# Altium schematic symbol library Passive.SchLib: 24 symbols
Pins are listed as number, name and electrical type; pins without a type are passive.

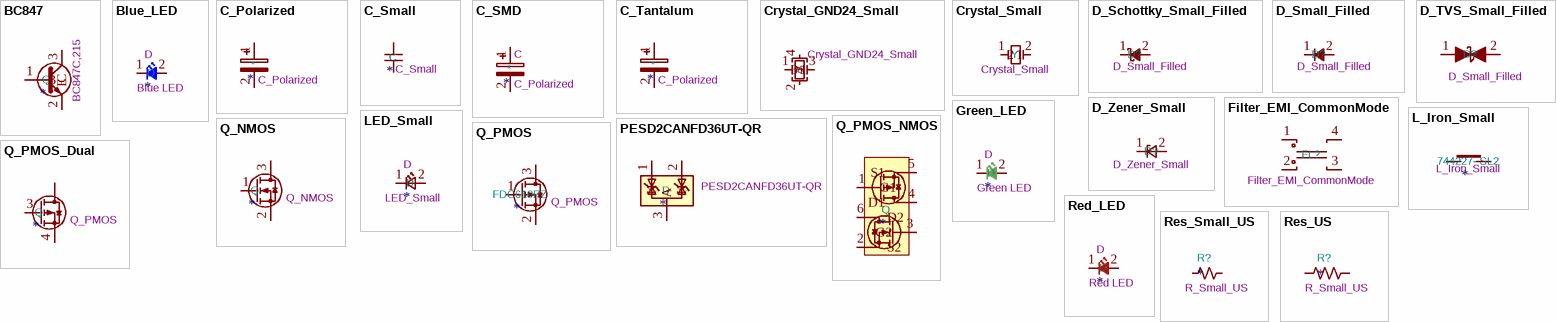
[diagram p0: symbols BC847 to Res_US]

## BC847
designator Q  value BC847C,215
NPN bipolar junction transistor; Manufacturer: Nexperia; Manufacturer Lifecycle Status: RELEASED FOR SUPPLY; ki_keywords: BJT; Reference: Q; Collector Emitter Saturation Voltage: 400mV; Collector Emitter Voltage (VCEO): 45V; hFE Min: 420; Max Collector Current: 100mA; Max Power Dissipation: 250mW; Number of Elements: 1; Transition Frequency: 100MHz; Datasheet: ~; Description_: NPN bipolar junction transistor; Category: BJTs; China RoHS: Compliant; Contact Plating: Tin; Lifecycle Status: Production; Manufacturer Part Number: BC847C,215; Max Operating Temperature: 150°C; Min Operating Temperature: -65°C; Pins: 3; Number of Terminals: 3; Packaging: Cut Tape; Polarity: NPN; Power Dissipation: 250mW; REACH SVHC: Yes; RoHS: Compliant; Schedule B: 8541210080, 8541210080|8541210080, 8541210080|8541210080|8541210080, 8541210080|8541210080|8541210080|8541210080; Supplier 1: Mouser; Supplier Part Number 1: 771-BC847C-T/R; Supplier Packaging 1: Tape & Reel; Supplier Unit Price 1: $0.13; Supplier Location 1: US
footprint SOT-23-3
pins: 1 B, 2 E, 3 C

## Blue_LED
designator D  value Blue LED  Reference: D
Light emitting diode, small symbol, filled shape; Sim.Pins: 1=K 2=A; ki_keywords: LED diode light-emitting-diode; ki_fp_filters: LED* LED_SMD:* LED_THT:*; Datasheet: ~; Description_: Light emitting diode, small symbol, filled shape
footprint LED_0201_0603Metric
footprint LED_0402_1005Metric
footprint LED_0603_1608Metric
footprint LED_0805_2012Metric
footprint LED_01005_0402Metric
footprint LED_1206_3216Metric
footprint LED_1206_3216Metric_ReverseMount_Hole1.8x2.4mm
footprint LED_1210_3225Metric
footprint LED_1812_4532Metric
footprint LED_2010_5025Metric
footprint LED_2512_6332Metric
pins: 1 K, 2 A

## C_Polarized
designator *  value C_Polarized
Polarized capacitor; Datasheet: ~
footprint CP_EIA-1608-08_AVX-J
footprint CP_EIA-1608-10_AVX-L
footprint CP_EIA-1608-08_AVX-J
footprint CP_EIA-2012-12_Kemet-R
footprint CP_Radial_D8.0mm_P2.50mm
footprint CP_Radial_D8.0mm_P3.50mm
footprint CP_Radial_D6.3mm_P2.50mm
footprint CP_Radial_D5.0mm_P2.50mm
footprint CP_Radial_D8.0mm_P5.00mm
footprint CP_Radial_D7.5mm_P2.50mm
footprint CP_Radial_D5.0mm_P2.00mm
footprint CP_Radial_D5.0mm_P2.00mm
footprint CP_Radial_D4.0mm_P2.00mm
footprint CP_Radial_D4.0mm_P1.50mm
footprint CP_Radial_D10.0mm_P2.50mm
footprint CP_Radial_D10.0mm_P2.50mm_P5.00mm
footprint CP_Radial_D10.0mm_P3.50mm
footprint CP_Radial_D10.0mm_P5.00mm
footprint CP_Radial_D10.0mm_P5.00mm_P7.50mm
footprint CP_Radial_D10.0mm_P7.50mm
footprint CP_Radial_D12.5mm_P2.50mm
footprint CP_Radial_D12.5mm_P5.00mm
footprint CP_Radial_D12.5mm_P7.50mm
pins: 1, 2

## C_Small
designator C  value C_Small
Unpolarized capacitor, small symbol; Datasheet: ~; Description_: Unpolarized capacitor, small symbol
footprint C_0201_0603Metric
footprint C_0402_1005Metric
footprint C_0603_1608Metric
footprint C_0805_2012Metric
footprint C_1206_3216Metric
footprint C_0504_1310Metric
footprint C_01005_0402Metric
footprint C_1210_3225Metric
footprint C_1808_4520Metric
footprint C_1812_4532Metric
footprint C_1825_4564Metric
footprint C_2220_5750Metric
footprint C_2225_5664Metric
footprint C_3640_9110Metric
pins: 1, 2

## C_SMD
designator *  value C_Polarized  Reference: C
SMD Capacitor; Datasheet: ~
footprint C_01005_0402Metric
footprint C_0201_0603Metric
footprint C_0402_1005Metric
footprint C_0504_1310Metric
footprint C_0603_1608Metric
footprint C_0805_2012Metric
footprint C_1206_3216Metric
footprint C_1210_3225Metric
footprint C_1808_4520Metric
footprint C_1812_4532Metric
footprint C_1825_4564Metric
footprint C_2220_5750Metric
footprint C_2225_5664Metric
footprint C_3640_9110Metric
footprint C_Elec_10x10.2
footprint C_Elec_3x5.4
footprint C_Elec_4x5.4
footprint C_Elec_4x5.8
footprint C_Elec_5x5.4
footprint C_Elec_5x5.8
footprint C_Elec_6.3x5.4
footprint C_Elec_6.3x5.8
footprint C_Elec_6.3x7.7
footprint C_Elec_8x10.2
footprint C_Elec_8x5.4
footprint C_Elec_8x5.4
footprint C_Elec_8x5.4
footprint C_Elec_8x6.2
footprint C_Trimmer_Murata_TZB4-A
footprint C_Trimmer_Murata_TZB4-B
footprint C_Trimmer_Murata_TZC3
footprint C_Trimmer_Murata_TZR1
footprint C_Trimmer_Murata_TZW4
footprint C_Trimmer_Murata_TZY2
footprint C_Trimmer_Sprague-Goodman_SGC3
footprint C_Trimmer_Voltronics_JN
footprint C_Trimmer_Voltronics_JQ
footprint C_Trimmer_Voltronics_JR
footprint C_Trimmer_Voltronics_JV
footprint C_Trimmer_Voltronics_JZ
footprint CP_Elec_10x10
footprint CP_Elec_10x10.5
footprint CP_Elec_10x12.5
footprint CP_Elec_10x12.6
footprint CP_Elec_10x14.3
footprint CP_Elec_10x7.7
footprint CP_Elec_10x7.9
footprint CP_Elec_16x17.5
footprint CP_Elec_16x22
footprint CP_Elec_18x17.5
footprint CP_Elec_18x22
footprint CP_Elec_3x5.3
footprint CP_Elec_3x5.4
footprint CP_Elec_4x3
footprint CP_Elec_4x3.9
footprint CP_Elec_4x4.5
footprint CP_Elec_4x5.3
footprint CP_Elec_4x5.4
footprint CP_Elec_4x5.7
footprint CP_Elec_4x5.8
footprint CP_Elec_5x3
footprint CP_Elec_5x3.9
footprint CP_Elec_5x4.4
footprint CP_Elec_5x4.5
footprint CP_Elec_5x5.3
footprint CP_Elec_5x5.4
footprint CP_Elec_5x5.7
footprint CP_Elec_5x5.8
footprint CP_Elec_5x5.9
footprint CP_Elec_6.3x3
footprint CP_Elec_6.3x3.9
footprint CP_Elec_6.3x4.5
footprint CP_Elec_6.3x4.9
footprint CP_Elec_6.3x5.2
footprint CP_Elec_6.3x5.3
footprint CP_Elec_6.3x5.4
footprint CP_Elec_6.3x5.4_Nichicon
footprint CP_Elec_6.3x5.7
footprint CP_Elec_6.3x5.8
footprint CP_Elec_6.3x5.9
footprint CP_Elec_6.3x7.7
footprint CP_Elec_6.3x9.9
footprint CP_Elec_8x10
footprint CP_Elec_8x10.5
footprint CP_Elec_8x11.9
footprint CP_Elec_8x5.4
footprint CP_Elec_8x6.2
footprint CP_Elec_8x6.5
footprint CP_Elec_8x6.7
footprint CP_Elec_8x6.9
footprint CP_Elec_CAP-XX_DMF3Zxxxxxxxx3D
footprint C_Elec_12.5x12.5
pins: 1, 2

## C_Tantalum
designator *  value C_Polarized
Tantalum capacitor; Datasheet: ~
footprint CP_EIA-1608-08_AVX-J
footprint CP_EIA-1608-10_AVX-L
footprint CP_EIA-2012-12_Kemet-R
footprint CP_EIA-2012-15_AVX-P
footprint CP_EIA-3216-10_Kemet-I
footprint CP_EIA-3216-12_Kemet-S
footprint CP_EIA-3216-18_Kemet-A
footprint CP_EIA-3528-12_Kemet-T
footprint CP_EIA-3528-15_AVX-H
footprint CP_EIA-3528-21_Kemet-B
footprint CP_EIA-6032-15_Kemet-U
footprint CP_EIA-6032-20_AVX-F
footprint CP_EIA-6032-28_Kemet-C
footprint CP_EIA-7132-20_AVX-U
footprint CP_EIA-7132-28_AVX-C
footprint CP_EIA-7260-15_AVX-R
footprint CP_EIA-7260-20_AVX-M
footprint CP_EIA-7260-28_AVX-M
footprint CP_EIA-7260-38_AVX-R
footprint CP_EIA-7343-15_Kemet-W
footprint CP_EIA-7343-20_Kemet-V
footprint CP_EIA-7343-30_AVX-N
footprint CP_EIA-7343-43_Kemet-X
footprint CP_EIA-7343-31_Kemet-D
footprint CP_EIA-7360-38_Kemet-E
footprint CP_EIA-7343-40_Kemet-Y
footprint CP_EIA-7361-38_AVX-V
footprint CP_EIA-7361-438_AVX-U
pins: 1, 2

## Crystal_GND24_Small
designator Y  value Crystal_GND24_Small  (hidden comment: *)
Four pin crystal, GND on pins 2 and 4, small symbol; ki_keywords: quartz ceramic resonator oscillator; ki_fp_filters: Crystal*; Reference: Y; Datasheet: ~; Description_: Four pin crystal, GND on pins 2 and 4, small symbol
pins: 1, 2, 3, 4

## Crystal_Small
designator Y  value Crystal_Small  (hidden comment: *)
Two pin crystal, small symbol; ki_keywords: quartz ceramic resonator oscillator; ki_fp_filters: Crystal*; Reference: Y; Datasheet: ~; Description_: Two pin crystal, small symbol
footprint Crystal_SMD_G8-2Pin_3.2x1.5mm
pins: 1, 2

## D_Schottky_Small_Filled
designator D?  value D_Small_Filled  (hidden comment: *)
Schottky diode, small symbol; Description_: Schottky diode, small symbol, filled shape; Sim.Device: D; Sim.Pins: 1=K 2=A; ki_fp_filters: TO-???* *_Diode_* *SingleDiode* D_*; Datasheet: ~; ki_keywords: diode; Reference: D
footprint D_SMA
footprint D_MicroMELF
footprint D_MiniMELF
footprint D_SMB
footprint D_SMC
footprint D_SC-80
footprint D_SMF
footprint D_SOD-128
footprint D_SOD-123
pins: 1 K, 2 A

## D_Small_Filled
designator D?  value D_Small_Filled  (hidden comment: *)
Diode, small symbol, filled shape; Sim.Device: D; Sim.Pins: 1=K 2=A; ki_fp_filters: TO-???* *_Diode_* *SingleDiode* D_*; Datasheet: ~; Description_: Diode, small symbol, filled shape; ki_keywords: diode; Reference: D
footprint D_SMA
footprint D_MicroMELF
footprint D_MiniMELF
footprint D_SMB
footprint D_SMC
footprint D_SC-80
footprint D_SMF
footprint D_SOD-128
footprint D_SOD-123
pins: 1 K, 2 A

## D_TVS_Small_Filled
designator D?  value D_Small_Filled  (hidden comment: *)
TVS diode, small symbol; Description_: TVS diode, small symbol, filled shape; Sim.Device: D; Sim.Pins: 1=K 2=A; ki_fp_filters: TO-???* *_Diode_* *SingleDiode* D_*; Datasheet: ~; ki_keywords: diode; Reference: D
footprint D_SMA
footprint D_MicroMELF
footprint D_MiniMELF
footprint D_SMB
footprint D_SMC
footprint D_SC-80
footprint D_SMF
footprint D_SOD-128
footprint D_SOD-123
pins: 1 K, 2 A

## D_Zener_Small
designator D?  value D_Zener_Small  (hidden comment: *)
Zener diode, small symbol; ki_fp_filters: TO-???* *_Diode_* *SingleDiode* D_*; Reference: D; Datasheet: ~; Description_: Zener diode, small symbol; ki_keywords: diode; DNP: *
footprint D_SMA
footprint D_MicroMELF
footprint D_SMB
footprint D_SMC
footprint D_SC-80
footprint D_SOD-123
footprint D_SOD-123F
footprint D_SOD-128
footprint D_MiniMELF
pins: 1 K, 2 A

## Filter_EMI_CommonMode
designator FL?  value Filter_EMI_CommonMode  (hidden comment: *)
EMI 2-inductor common mode filter; ki_keywords: EMI common mode filter; ki_fp_filters: L_* L_CommonMode*; Reference: FL; Datasheet: ~; Description_: EMI 2-inductor common mode filter
footprint L_CommonMode_Wuerth_WE-SL2
footprint L_CommonModeChoke_Wuerth_WE-SL2 (WE-SL2_L9.2W6H5 SMD Inductor, 4-Leads, Body 9.2x6mm)
footprint L_TDK_ACT45B-510
footprint L_CommonModeChoke_Coilcraft_0805USB
footprint L_CommonModeChoke_1210_4P
pins: 1, 2, 3, 4

## Green_LED
designator D  value Green LED  Reference: D
Light emitting diode, small symbol, filled shape; Sim.Pins: 1=K 2=A; ki_keywords: LED diode light-emitting-diode; ki_fp_filters: LED* LED_SMD:* LED_THT:*; Datasheet: ~; Description_: Light emitting diode, small symbol, filled shape
footprint LED_0201_0603Metric
footprint LED_0402_1005Metric
footprint LED_0603_1608Metric
footprint LED_0805_2012Metric
footprint LED_01005_0402Metric
footprint LED_1206_3216Metric
footprint LED_1206_3216Metric_ReverseMount_Hole1.8x2.4mm
footprint LED_1210_3225Metric
footprint LED_1812_4532Metric
footprint LED_2010_5025Metric
footprint LED_2512_6332Metric
pins: 1 K, 2 A

## L_Iron_Small
designator 744227- SL2  value L_Iron_Small
Inductor with iron core, small symbol; Datasheet: ~; Description_: Inductor with iron core, small symbol
footprint L_0201_0603Metric
footprint L_0402_1005Metric
footprint L_0603_1608Metric
footprint L_0805_2012Metric
footprint L_1008_2520Metric
footprint L_1206_3216Metric
footprint L_1210_3225Metric
footprint L_1806_4516Metric
footprint L_APV_APH0650_6045
footprint L_6.3x6.3_H3
footprint L_10.4x10.4_H4.8
footprint L_12x12mm_H4.5mm
footprint L_12x12mm_H6mm
footprint L_12x12mm_H8mm
footprint L_1812_4532Metric
footprint L_2010_5025Metric
footprint L_2512_6332Metric
footprint L_Abracon_ASPI-0425
footprint L_Abracon_ASPI-0630LR
footprint L_Abracon_ASPI-3012S
footprint L_Abracon_ASPI-4030S
footprint L_Abracon_ASPIAIG-F4020
footprint L_Wurth_WE-LHCA_1040 (SMD Power Inductor, 2-Leads, body 10x10mm)
footprint L_Wurth_WE-LHCA_1365 (SMD Power Inductor, 2-Leads, body 13.45 x 12.60 mm)
footprint L_Wurth_WE-LHCA_1770 (SMD Power Inductor, 2-Leads, body 17.45 x 16.95 mm)
footprint L_Wurth_WE-LHCA_7030 (SMD Power Inductor, 2-Leads, body 6.95 x 6.60 mm)
pins: 1, 2

## LED_Small
designator D  value LED_Small  Reference: D
Light emitting diode, small symbol; Sim.Pin: 1=K 2=A; ki_keywords: LED diode light-emitting-diode; ki_fp_filters: LED* LED_SMD:* LED_THT:*; Datasheet: ~; Description_: Light emitting diode, small symbol
pins: 1 K, 2 A

## PESD2CANFD36UT-QR
designator D  value PESD2CANFD36UT-QR
ESD protection for in-vehicle networks; ki_keywords: can esd protection suppression transient; ki_fp_filters: SOT?23*; Reference: D; Footprint: Package_TO_SOT_SMD:SOT-23; Datasheet: https://www.onsemi.com/pub_link/Collateral/NUP2105L-D.PDF; Description_: ESD protection for in-vehicle networks
footprint SOT-23-3
pins: 1 K, 2 K, 3 A

## Q_NMOS
designator Q  value Q_NMOS
N-MOSFET transistor; ki_keywords: NMOS N-MOS; Reference: Q; Datasheet: ~; Description_: N-MOSFET transistor
footprint SOT-23-3
pins: 1 G, 2 S, 3 D

## Q_PMOS
designator FDC610PZ  value Q_PMOS
P-MOSFET transistor; ki_keywords: PMOS P-MOS; Reference: Q; Datasheet: ~; Description_: P-MOSFET transistor
footprint SOT-23-3
footprint TO-252-2_TabPin3 (TO-252-2_TabPin1)
pins: 1 G, 2 S, 3 D

## Q_PMOS_Dual
designator Q  value Q_PMOS
P-MOSFET transistor; ki_keywords: PMOS P-MOS; Reference: Q; Datasheet: ~; Description_: P-MOSFET transistor
footprint SOT-23-6; pin to pad 1>1+2+5+6
pins: 1 D, 3 G, 4 S

## Q_PMOS_NMOS
designator Q
P-MOSFET transistor; Manufacturer: GoFord; Manufacturer Lifecycle Status: ACTIVE; Manufacturer Part Number: G300C03L6; ki_keywords: PMOS P-MOS; Reference: Q; Value: Q_PMOS; Datasheet: ~; Description_: P-MOSFET transistor; Case/Package: SOT-23-6; Category: MOSFETs; Country of Origin: China; Harmonized Tariff Schedule (HTS) Code: 8541290000; Lifecycle Status: Production; Supplier 1: DigiKey; Supplier Part Number 1: 3141-G300C03L6CT-ND; Supplier Packaging 1: Cut Tape; Supplier Unit Price 1: $0.50; Supplier Location 1: US
footprint SOT-23-6
pins: 1 G1, 2 S2, 3 G2, 4 D1, 5 S1, 6 D2

## Red_LED
designator D  value Red LED  Reference: D
Light emitting diode, small symbol, filled shape; Sim.Pins: 1=K 2=A; ki_keywords: LED diode light-emitting-diode; ki_fp_filters: LED* LED_SMD:* LED_THT:*; Datasheet: ~; Description_: Light emitting diode, small symbol, filled shape
footprint LED_0201_0603Metric
footprint LED_0402_1005Metric
footprint LED_0603_1608Metric
footprint LED_0805_2012Metric
footprint LED_01005_0402Metric
footprint LED_1206_3216Metric
footprint LED_1206_3216Metric_ReverseMount_Hole1.8x2.4mm
footprint LED_1210_3225Metric
footprint LED_1812_4532Metric
footprint LED_2010_5025Metric
footprint LED_2512_6332Metric
pins: 1 K, 2 A

## Res_Small_US
designator R?  value R_Small_US
Resistor, small US symbol; Datasheet: ~; Description_: Resistor, small US symbol
footprint R_0603_1608Metric
footprint R_0201_0603Metric
footprint R_0402_1005Metric
footprint R_0508_1220Metric
footprint R_0612_1632Metric
footprint R_0805_2012Metric
footprint R_0815_2038Metric
footprint R_01005_0402Metric
footprint R_1020_2550Metric
footprint R_1206_3216Metric
footprint R_1210_3225Metric
footprint R_1218_3246Metric
footprint R_1225_3264Metric
footprint R_1812_4532Metric
footprint R_2010_5025Metric
footprint R_2512_6332Metric
footprint R_2816_7142Metric
footprint R_4020_10251Metric
footprint R_MELF_MMB-0207
footprint R_MicroMELF_MMU-0102
footprint R_MiniMELF_MMA-0204
pins: 1, 2

## Res_US
designator R?  value R_Small_US
Resistor, small US symbol; Datasheet: ~; Description_: Resistor, small US symbol
footprint R_0603_1608Metric
footprint R_0201_0603Metric
footprint R_0402_1005Metric
footprint R_0508_1220Metric
footprint R_0612_1632Metric
footprint R_0805_2012Metric
footprint R_0815_2038Metric
footprint R_01005_0402Metric
footprint R_1020_2550Metric
footprint R_1206_3216Metric
footprint R_1210_3225Metric
footprint R_1218_3246Metric
footprint R_1225_3264Metric
footprint R_1812_4532Metric
footprint R_2010_5025Metric
footprint R_2512_6332Metric
footprint R_2816_7142Metric
footprint R_4020_10251Metric
footprint R_MELF_MMB-0207
footprint R_MicroMELF_MMU-0102
footprint R_MiniMELF_MMA-0204
pins: 1, 2